# Altium integrated library TI Data Converters Analog to Digital Converter.IntLib: 2197 symbols (part 13 of 168)
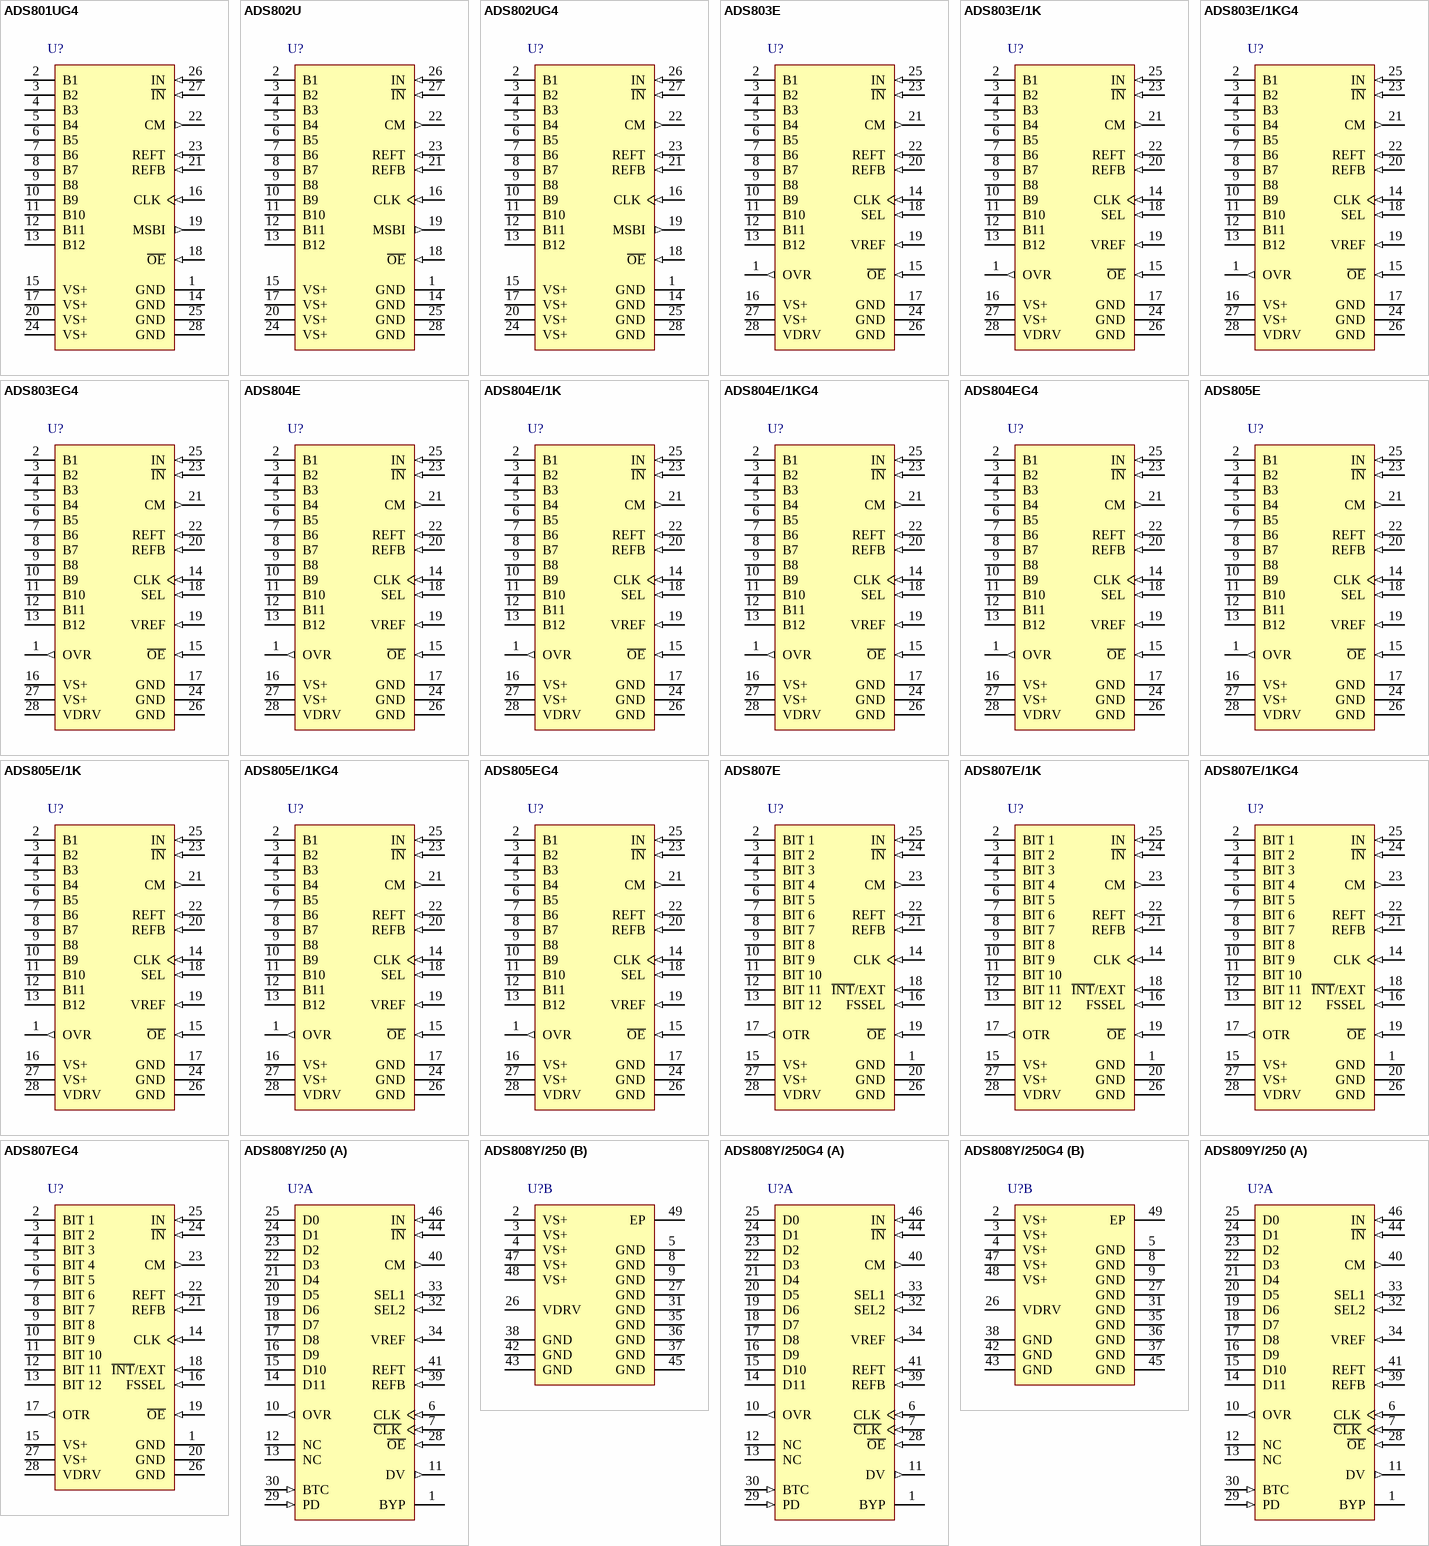
[diagram p138: symbols ADS801UG4 to ADS809Y/250]

## ADS807E
designator U?
12-Bit, 53 MSPS ADC Single-Ended / Differential Input with Range of 2 to 3 Vpp, Internal / External Reference, Out of Range Indicator, -40 to 85 degC, 28-pin SOP (DB28), Green (RoHS & no Sb/Br); Manufacturer: Texas Instruments; PartNumber: ADS807E; # Input Channels: 1; Analog Voltage AV/DD(Max)(V): 5.25; Analog Voltage AV/DD(Min)(V): 4.75; Architecture: Pipeline; Digital Supply(Max)(V): 5; Digital Supply(Min)(V): 3; ENOB(Bits): 0.5; INL(Max)(+/-LSB): 4; Interface: Parallel CMOS; Resolution(Bits): 12; Sample Rate (max)(SPS): 53M; SFDR(dB): 82; SINAD(dB): 69; SubFamily: High Speed ADC (>10MSPS); DatasheetVersion: SBAS072A; PackageVersion: 4040065/E, 12/2001; PackageReference: DB28; PackageDescription: 28-Pin Plastic Small Outline, Body 10.2 X 5.3 mm, Pitch 0.65 mm; Supplier 1: Digi-Key; Supplier Part Number 1: TLC4545IDGKG4-ND; Supplier 2: Mouser; Supplier Part Number 2: 595-TLC4545IDGKG4; Eco-Plan: Green (RoHS & no Sb/Br); SNR(dB): 69; Mounting Technology: Surface Mount; Code_JEDEC: MO-150; ComponentLink1Description: Manufacturer URL; ComponentLink1URL: http://www.ti.com/; ComponentLink2Description: Datasheet; ComponentLink2URL: http://www.ti.com/general/docs/lit/getliterature.tsp?genericPartNumber=ADS807&fileType=pdf; ComponentLink3Description: Package Specification; ComponentLink3URL: http://www.ti.com/lit/ml/msso002e/msso002e.pdf
footprint TI-DB28_N (SOP, 28-Leads, Body 10.2x5.3mm, Pitch 0.65mm, IPC Medium Density)
footprint TI-DB28_L (SOP, 28-Leads, Body 10.2x5.3mm, Pitch 0.65mm, IPC High Density)
footprint TI-DB28_M (SOP, 28-Leads, Body 10.2x5.3mm, Pitch 0.65mm, IPC Low Density)
pins: 1 GND (power) "Ground", 2 BIT 1 (hiz) "Data BIT 1 (MSB)", 3 BIT 2 (hiz) "Data BIT 2", 4 BIT 3 (hiz) "Data BIT 3", 5 BIT 4 (hiz) "Data BIT 4", 6 BIT 5 (hiz) "Data BIT 5", 7 BIT 6 (hiz) "Data BIT 6", 8 BIT 7 (hiz) "Data BIT 7", 9 BIT 8 (hiz) "Data BIT 8", 10 BIT 9 (hiz) "Data BIT 9", 11 BIT 10 (hiz) "Data BIT 10", 12 BIT 11 (hiz) "Data BIT 11", 13 BIT 12 (hiz) "Data BIT 12 (LSB)", 14 CLK (in) "Convert Clock", 15 VS+ (power) "+5V Supply", 16 FSSEL (in) "HI = 3V, LO = 2V", 17 OTR (out) "Out-of-Range Indicator", 18 ~{INT}/EXT (in) "Reference Select: HIGH or Floating = External LOW = Internal 50kohm pull-up.", 19 ~{OE} (in) "Output Enable", 20 GND (power) "Ground", 21 REFB (in) "Bottom Reference/Bypass", 22 REFT (in) "Top Reference/Bypass", 23 CM (out) "Common-Mode Voltage Output", 24 ~{IN} (in) "Complementary Analog Input", 25 IN (in) "Analog Input", 26 GND (power) "Ground", 27 VS+ (power) "+5V Supply", 28 VDRV (power) "Logic Driver Supply Voltage"

## ADS807E/1K
designator U?
12-Bit, 53 MSPS ADC Single-Ended / Differential Input with Range of 2 to 3 Vpp, Internal / External Reference, Out of Range Indicator, -40 to 85 degC, 28-pin SOP (DB28), Green (RoHS & no Sb/Br); Manufacturer: Texas Instruments; PartNumber: ADS807E/1K; # Input Channels: 1; Analog Voltage AV/DD(Max)(V): 5.25; Analog Voltage AV/DD(Min)(V): 4.75; Architecture: Pipeline; Digital Supply(Max)(V): 5; Digital Supply(Min)(V): 3; ENOB(Bits): 0.5; INL(Max)(+/-LSB): 4; Interface: Parallel CMOS; Resolution(Bits): 12; Sample Rate (max)(SPS): 53M; SFDR(dB): 82; SINAD(dB): 69; SubFamily: High Speed ADC (>10MSPS); DatasheetVersion: SBAS072A; PackageVersion: 4040065/E, 12/2001; PackageReference: DB28; PackageDescription: 28-Pin Plastic Small Outline, Body 10.2 X 5.3 mm, Pitch 0.65 mm; Supplier 1: Digi-Key; Supplier Part Number 1: 296-13825-5-ND; Supplier 2: Newark; Supplier Part Number 2: 76C7413; Supplier 3: Mouser; Supplier Part Number 3: 595-TLC4541IDGK; Eco-Plan: Green (RoHS & no Sb/Br); SNR(dB): 69; Mounting Technology: Surface Mount; Code_JEDEC: MO-150; ComponentLink1Description: Manufacturer URL; ComponentLink1URL: http://www.ti.com/; ComponentLink2Description: Datasheet; ComponentLink2URL: http://www.ti.com/general/docs/lit/getliterature.tsp?genericPartNumber=ADS807&fileType=pdf; ComponentLink3Description: Package Specification; ComponentLink3URL: http://www.ti.com/lit/ml/msso002e/msso002e.pdf
footprint TI-DB28_N (SOP, 28-Leads, Body 10.2x5.3mm, Pitch 0.65mm, IPC Medium Density)
footprint TI-DB28_L (SOP, 28-Leads, Body 10.2x5.3mm, Pitch 0.65mm, IPC High Density)
footprint TI-DB28_M (SOP, 28-Leads, Body 10.2x5.3mm, Pitch 0.65mm, IPC Low Density)
pins: 1 GND (power) "Ground", 2 BIT 1 (hiz) "Data BIT 1 (MSB)", 3 BIT 2 (hiz) "Data BIT 2", 4 BIT 3 (hiz) "Data BIT 3", 5 BIT 4 (hiz) "Data BIT 4", 6 BIT 5 (hiz) "Data BIT 5", 7 BIT 6 (hiz) "Data BIT 6", 8 BIT 7 (hiz) "Data BIT 7", 9 BIT 8 (hiz) "Data BIT 8", 10 BIT 9 (hiz) "Data BIT 9", 11 BIT 10 (hiz) "Data BIT 10", 12 BIT 11 (hiz) "Data BIT 11", 13 BIT 12 (hiz) "Data BIT 12 (LSB)", 14 CLK (in) "Convert Clock", 15 VS+ (power) "+5V Supply", 16 FSSEL (in) "HI = 3V, LO = 2V", 17 OTR (out) "Out-of-Range Indicator", 18 ~{INT}/EXT (in) "Reference Select: HIGH or Floating = External LOW = Internal 50kohm pull-up.", 19 ~{OE} (in) "Output Enable", 20 GND (power) "Ground", 21 REFB (in) "Bottom Reference/Bypass", 22 REFT (in) "Top Reference/Bypass", 23 CM (out) "Common-Mode Voltage Output", 24 ~{IN} (in) "Complementary Analog Input", 25 IN (in) "Analog Input", 26 GND (power) "Ground", 27 VS+ (power) "+5V Supply", 28 VDRV (power) "Logic Driver Supply Voltage"

## ADS807E/1KG4
designator U?
12-Bit, 53 MSPS ADC Single-Ended / Differential Input with Range of 2 to 3 Vpp, Internal / External Reference, Out of Range Indicator, -40 to 85 degC, 28-pin SOP (DB28), Green (RoHS & no Sb/Br); Manufacturer: Texas Instruments; PartNumber: ADS807E/1KG4; # Input Channels: 1; Analog Voltage AV/DD(Max)(V): 5.25; Analog Voltage AV/DD(Min)(V): 4.75; Architecture: Pipeline; Digital Supply(Max)(V): 5; Digital Supply(Min)(V): 3; ENOB(Bits): 0.5; INL(Max)(+/-LSB): 4; Interface: Parallel CMOS; Resolution(Bits): 12; Sample Rate (max)(SPS): 53M; SFDR(dB): 82; SINAD(dB): 69; SubFamily: High Speed ADC (>10MSPS); DatasheetVersion: SBAS072A; PackageVersion: 4040065/E, 12/2001; PackageReference: DB28; PackageDescription: 28-Pin Plastic Small Outline, Body 10.2 X 5.3 mm, Pitch 0.65 mm; Supplier 1: Digi-Key; Supplier Part Number 1: TLC4541IDGKG4-ND; Supplier 2: Mouser; Supplier Part Number 2: 595-TLC4541IDGKG4; Eco-Plan: Green (RoHS & no Sb/Br); SNR(dB): 69; Mounting Technology: Surface Mount; Code_JEDEC: MO-150; ComponentLink1Description: Manufacturer URL; ComponentLink1URL: http://www.ti.com/; ComponentLink2Description: Datasheet; ComponentLink2URL: http://www.ti.com/general/docs/lit/getliterature.tsp?genericPartNumber=ADS807&fileType=pdf; ComponentLink3Description: Package Specification; ComponentLink3URL: http://www.ti.com/lit/ml/msso002e/msso002e.pdf
footprint TI-DB28_N (SOP, 28-Leads, Body 10.2x5.3mm, Pitch 0.65mm, IPC Medium Density)
footprint TI-DB28_L (SOP, 28-Leads, Body 10.2x5.3mm, Pitch 0.65mm, IPC High Density)
footprint TI-DB28_M (SOP, 28-Leads, Body 10.2x5.3mm, Pitch 0.65mm, IPC Low Density)
pins: 1 GND (power) "Ground", 2 BIT 1 (hiz) "Data BIT 1 (MSB)", 3 BIT 2 (hiz) "Data BIT 2", 4 BIT 3 (hiz) "Data BIT 3", 5 BIT 4 (hiz) "Data BIT 4", 6 BIT 5 (hiz) "Data BIT 5", 7 BIT 6 (hiz) "Data BIT 6", 8 BIT 7 (hiz) "Data BIT 7", 9 BIT 8 (hiz) "Data BIT 8", 10 BIT 9 (hiz) "Data BIT 9", 11 BIT 10 (hiz) "Data BIT 10", 12 BIT 11 (hiz) "Data BIT 11", 13 BIT 12 (hiz) "Data BIT 12 (LSB)", 14 CLK (in) "Convert Clock", 15 VS+ (power) "+5V Supply", 16 FSSEL (in) "HI = 3V, LO = 2V", 17 OTR (out) "Out-of-Range Indicator", 18 ~{INT}/EXT (in) "Reference Select: HIGH or Floating = External LOW = Internal 50kohm pull-up.", 19 ~{OE} (in) "Output Enable", 20 GND (power) "Ground", 21 REFB (in) "Bottom Reference/Bypass", 22 REFT (in) "Top Reference/Bypass", 23 CM (out) "Common-Mode Voltage Output", 24 ~{IN} (in) "Complementary Analog Input", 25 IN (in) "Analog Input", 26 GND (power) "Ground", 27 VS+ (power) "+5V Supply", 28 VDRV (power) "Logic Driver Supply Voltage"

## ADS807EG4
designator U?
12-Bit, 53 MSPS ADC Single-Ended / Differential Input with Range of 2 to 3 Vpp, Internal / External Reference, Out of Range Indicator, -40 to 85 degC, 28-pin SOP (DB28), Green (RoHS & no Sb/Br); Manufacturer: Texas Instruments; PartNumber: ADS807EG4; # Input Channels: 1; Analog Voltage AV/DD(Max)(V): 5.25; Analog Voltage AV/DD(Min)(V): 4.75; Architecture: Pipeline; Digital Supply(Max)(V): 5; Digital Supply(Min)(V): 3; ENOB(Bits): 0.5; INL(Max)(+/-LSB): 4; Interface: Parallel CMOS; Resolution(Bits): 12; Sample Rate (max)(SPS): 53M; SFDR(dB): 82; SINAD(dB): 69; SubFamily: High Speed ADC (>10MSPS); DatasheetVersion: SBAS072A; PackageVersion: 4040065/E, 12/2001; PackageReference: DB28; PackageDescription: 28-Pin Plastic Small Outline, Body 10.2 X 5.3 mm, Pitch 0.65 mm; Supplier 1: Digi-Key; Supplier Part Number 1: TLC4541IDGKR-ND; Supplier 2: Mouser; Supplier Part Number 2: 595-TLC4541IDGKR; Eco-Plan: Green (RoHS & no Sb/Br); SNR(dB): 69; Mounting Technology: Surface Mount; Code_JEDEC: MO-150; ComponentLink1Description: Manufacturer URL; ComponentLink1URL: http://www.ti.com/; ComponentLink2Description: Datasheet; ComponentLink2URL: http://www.ti.com/general/docs/lit/getliterature.tsp?genericPartNumber=ADS807&fileType=pdf; ComponentLink3Description: Package Specification; ComponentLink3URL: http://www.ti.com/lit/ml/msso002e/msso002e.pdf
footprint TI-DB28_N (SOP, 28-Leads, Body 10.2x5.3mm, Pitch 0.65mm, IPC Medium Density)
footprint TI-DB28_L (SOP, 28-Leads, Body 10.2x5.3mm, Pitch 0.65mm, IPC High Density)
footprint TI-DB28_M (SOP, 28-Leads, Body 10.2x5.3mm, Pitch 0.65mm, IPC Low Density)
pins: 1 GND (power) "Ground", 2 BIT 1 (hiz) "Data BIT 1 (MSB)", 3 BIT 2 (hiz) "Data BIT 2", 4 BIT 3 (hiz) "Data BIT 3", 5 BIT 4 (hiz) "Data BIT 4", 6 BIT 5 (hiz) "Data BIT 5", 7 BIT 6 (hiz) "Data BIT 6", 8 BIT 7 (hiz) "Data BIT 7", 9 BIT 8 (hiz) "Data BIT 8", 10 BIT 9 (hiz) "Data BIT 9", 11 BIT 10 (hiz) "Data BIT 10", 12 BIT 11 (hiz) "Data BIT 11", 13 BIT 12 (hiz) "Data BIT 12 (LSB)", 14 CLK (in) "Convert Clock", 15 VS+ (power) "+5V Supply", 16 FSSEL (in) "HI = 3V, LO = 2V", 17 OTR (out) "Out-of-Range Indicator", 18 ~{INT}/EXT (in) "Reference Select: HIGH or Floating = External LOW = Internal 50kohm pull-up.", 19 ~{OE} (in) "Output Enable", 20 GND (power) "Ground", 21 REFB (in) "Bottom Reference/Bypass", 22 REFT (in) "Top Reference/Bypass", 23 CM (out) "Common-Mode Voltage Output", 24 ~{IN} (in) "Complementary Analog Input", 25 IN (in) "Analog Input", 26 GND (power) "Ground", 27 VS+ (power) "+5V Supply", 28 VDRV (power) "Logic Driver Supply Voltage"

## ADS808Y/250
designator U?
12-Bit, 70 MSPS ADC Single-Ended / Differential, Internal / External Reference, Flexible Clocking, Selectable Fullscale Range and Power Down, -40 to 85 degC, 48-pin QFP (PHP48), Green (RoHS & no Sb/Br); Manufacturer: Texas Instruments; PartNumber: ADS808Y/250; # Input Channels: 1; Analog Voltage AV/DD(Max)(V): 5.25; Analog Voltage AV/DD(Min)(V): 4.75; Architecture: Pipeline; Digital Supply(Max)(V): 5; Digital Supply(Min)(V): 3; ENOB(Bits): 0.7; INL(Max)(+/-LSB): 7; Interface: Parallel CMOS; Resolution(Bits): 12; Sample Rate (max)(SPS): 70M; SFDR(dB): 68; SINAD(dB): 63; SNR(dB): 64; SubFamily: High Speed ADC (>10MSPS); DatasheetVersion: SBAS179C; PackageVersion: 4146927/B, 08/2003; PackageReference: PHP48-4790X4790TP; PackageDescription: 48-Pin PowerPAD(TM) Plastic Quad Flatpack, Body 7 x 7 mm, Pitch 0.5 mm; Supplier 1: Digi-Key; Supplier Part Number 1: TLC4541IDGKRG4-ND; Supplier 2: Mouser; Supplier Part Number 2: 595-TLC4541IDGKRG4; Eco-Plan: Green (RoHS & no Sb/Br); Mounting Technology: Surface Mount; Code_JEDEC: MS-026; ComponentLink1Description: Manufacturer URL; ComponentLink1URL: http://www.ti.com/; ComponentLink2Description: Datasheet; ComponentLink2URL: http://www.ti.com/general/docs/lit/getliterature.tsp?genericPartNumber=ADS808&fileType=pdf; ComponentLink3Description: Package Specification; ComponentLink3URL: http://www.ti.com/litv/pdf/mpqf051a
footprint TI-PHP48-4790X4790TP_N (QFP, 48-Leads, Body 7x7mm, Pitch 0.5mm, Thermal Pad 4.9 x 4.9 mm, IPC Medium Density)
footprint TI-PHP48-4790X4790TP_L (QFP, 48-Leads, Body 7x7mm, Pitch 0.5mm, Thermal Pad 4.9 x 4.9 mm, IPC High Density)
footprint TI-PHP48-4790X4790TP_M (QFP, 48-Leads, Body 7x7mm, Pitch 0.5mm, Thermal Pad 4.9 x 4.9 mm, IPC Low Density)
part A pins: 1 BYP "Bypass Point", 6 CLK (in) "Clock Input", 7 ~{CLK} (in) "Complementary Clock Input", 10 OVR (out) "Over-Range Indicator", 11 DV (out) "Data Valid Pulse: HI = Data Valid", 12 NC "No Connection", 13 NC "No Connection", 14 D11 (hiz) "Data Bit 11, (MSB)", 15 D10 (hiz) "Data Bit 10", 16 D9 (hiz) "Data Bit 9", 17 D8 (hiz) "Data Bit 8", 18 D7 (hiz) "Data Bit 7", 19 D6 (hiz) "Data Bit 6", 20 D5 (hiz) "Data Bit 5", 21 D4 (hiz) "Data Bit 4", 22 D3 (hiz) "Data Bit 3", 23 D2 (hiz) "Data Bit 2", 24 D1 (hiz) "Data Bit 1", 25 D0 (hiz) "Data Bit 0, (LSB)", 28 ~{OE} (in) "Output Enable: HI = High Impedance; LO or Floating: Normal Operation", 29 PD (in) "Power Down: HI = Power Down; LO = Normal", 30 BTC (in) "HI = Binary Two’s Complement; LO = Straight Binary", 32 SEL2 (in) "Reference Select 2: See Table on Page 5", 33 SEL1 (in) "Reference Select 1: See Table on Page 5", 34 VREF (in) "Internal Reference Voltage", 39 REFB (in) "Bottom Reference Voltage Bypass", 40 CM (out) "Common-Mode Voltage (midscale)", 41 REFT (in) "Top Reference Voltage Bypass", 44 ~{IN} (in) "Complementary Analog Input", 46 IN (in) "Analog Input"
part B pins: 2 VS+ (power) "Supply Voltage", 3 VS+ (power) "Supply Voltage", 4 VS+ (power) "Supply Voltage", 5 GND (power) "Ground", 8 GND (power) "Ground", 9 GND (power) "Ground", 26 VDRV (power) "Output Bit Driver Voltage Supply", 27 GND (power) "Ground", 31 GND (power) "Ground", 35 GND (power) "Ground", 36 GND (power) "Ground", 37 GND (power) "Ground", 38 GND (power) "Ground", 42 GND (power) "Ground", 43 GND (power) "Ground", 45 GND (power) "Ground", 47 VS+ (power) "Supply Voltage", 48 VS+ (power) "Supply Voltage", 49 EP

## ADS808Y/250G4
designator U?
12-Bit, 70 MSPS ADC Single-Ended / Differential, Internal / External Reference, Flexible Clocking, Selectable Fullscale Range and Power Down, -40 to 85 degC, 48-pin QFP (PHP48), Green (RoHS & no Sb/Br); Manufacturer: Texas Instruments; PartNumber: ADS808Y/250G4; # Input Channels: 1; Analog Voltage AV/DD(Max)(V): 5.25; Analog Voltage AV/DD(Min)(V): 4.75; Architecture: Pipeline; Digital Supply(Max)(V): 5; Digital Supply(Min)(V): 3; ENOB(Bits): 0.7; INL(Max)(+/-LSB): 7; Interface: Parallel CMOS; Resolution(Bits): 12; Sample Rate (max)(SPS): 70M; SFDR(dB): 68; SINAD(dB): 63; SNR(dB): 64; SubFamily: High Speed ADC (>10MSPS); DatasheetVersion: SBAS179C; PackageVersion: 4146927/B, 08/2003; PackageReference: PHP48-4790X4790TP; PackageDescription: 48-Pin PowerPAD(TM) Plastic Quad Flatpack, Body 7 x 7 mm, Pitch 0.5 mm; Supplier 1: Digi-Key; Supplier Part Number 1: 296-13506-5-ND; Supplier 2: Mouser; Supplier Part Number 2: 595-TLC3545IDGK; Eco-Plan: Green (RoHS & no Sb/Br); Mounting Technology: Surface Mount; Code_JEDEC: MS-026; ComponentLink1Description: Manufacturer URL; ComponentLink1URL: http://www.ti.com/; ComponentLink2Description: Datasheet; ComponentLink2URL: http://www.ti.com/general/docs/lit/getliterature.tsp?genericPartNumber=ADS808&fileType=pdf; ComponentLink3Description: Package Specification; ComponentLink3URL: http://www.ti.com/litv/pdf/mpqf051a
footprint TI-PHP48-4790X4790TP_N (QFP, 48-Leads, Body 7x7mm, Pitch 0.5mm, Thermal Pad 4.9 x 4.9 mm, IPC Medium Density)
footprint TI-PHP48-4790X4790TP_L (QFP, 48-Leads, Body 7x7mm, Pitch 0.5mm, Thermal Pad 4.9 x 4.9 mm, IPC High Density)
footprint TI-PHP48-4790X4790TP_M (QFP, 48-Leads, Body 7x7mm, Pitch 0.5mm, Thermal Pad 4.9 x 4.9 mm, IPC Low Density)
part A pins: 1 BYP "Bypass Point", 6 CLK (in) "Clock Input", 7 ~{CLK} (in) "Complementary Clock Input", 10 OVR (out) "Over-Range Indicator", 11 DV (out) "Data Valid Pulse: HI = Data Valid", 12 NC "No Connection", 13 NC "No Connection", 14 D11 (hiz) "Data Bit 11, (MSB)", 15 D10 (hiz) "Data Bit 10", 16 D9 (hiz) "Data Bit 9", 17 D8 (hiz) "Data Bit 8", 18 D7 (hiz) "Data Bit 7", 19 D6 (hiz) "Data Bit 6", 20 D5 (hiz) "Data Bit 5", 21 D4 (hiz) "Data Bit 4", 22 D3 (hiz) "Data Bit 3", 23 D2 (hiz) "Data Bit 2", 24 D1 (hiz) "Data Bit 1", 25 D0 (hiz) "Data Bit 0, (LSB)", 28 ~{OE} (in) "Output Enable: HI = High Impedance; LO or Floating: Normal Operation", 29 PD (in) "Power Down: HI = Power Down; LO = Normal", 30 BTC (in) "HI = Binary Two’s Complement; LO = Straight Binary", 32 SEL2 (in) "Reference Select 2: See Table on Page 5", 33 SEL1 (in) "Reference Select 1: See Table on Page 5", 34 VREF (in) "Internal Reference Voltage", 39 REFB (in) "Bottom Reference Voltage Bypass", 40 CM (out) "Common-Mode Voltage (midscale)", 41 REFT (in) "Top Reference Voltage Bypass", 44 ~{IN} (in) "Complementary Analog Input", 46 IN (in) "Analog Input"
part B pins: 2 VS+ (power) "Supply Voltage", 3 VS+ (power) "Supply Voltage", 4 VS+ (power) "Supply Voltage", 5 GND (power) "Ground", 8 GND (power) "Ground", 9 GND (power) "Ground", 26 VDRV (power) "Output Bit Driver Voltage Supply", 27 GND (power) "Ground", 31 GND (power) "Ground", 35 GND (power) "Ground", 36 GND (power) "Ground", 37 GND (power) "Ground", 38 GND (power) "Ground", 42 GND (power) "Ground", 43 GND (power) "Ground", 45 GND (power) "Ground", 47 VS+ (power) "Supply Voltage", 48 VS+ (power) "Supply Voltage", 49 EP

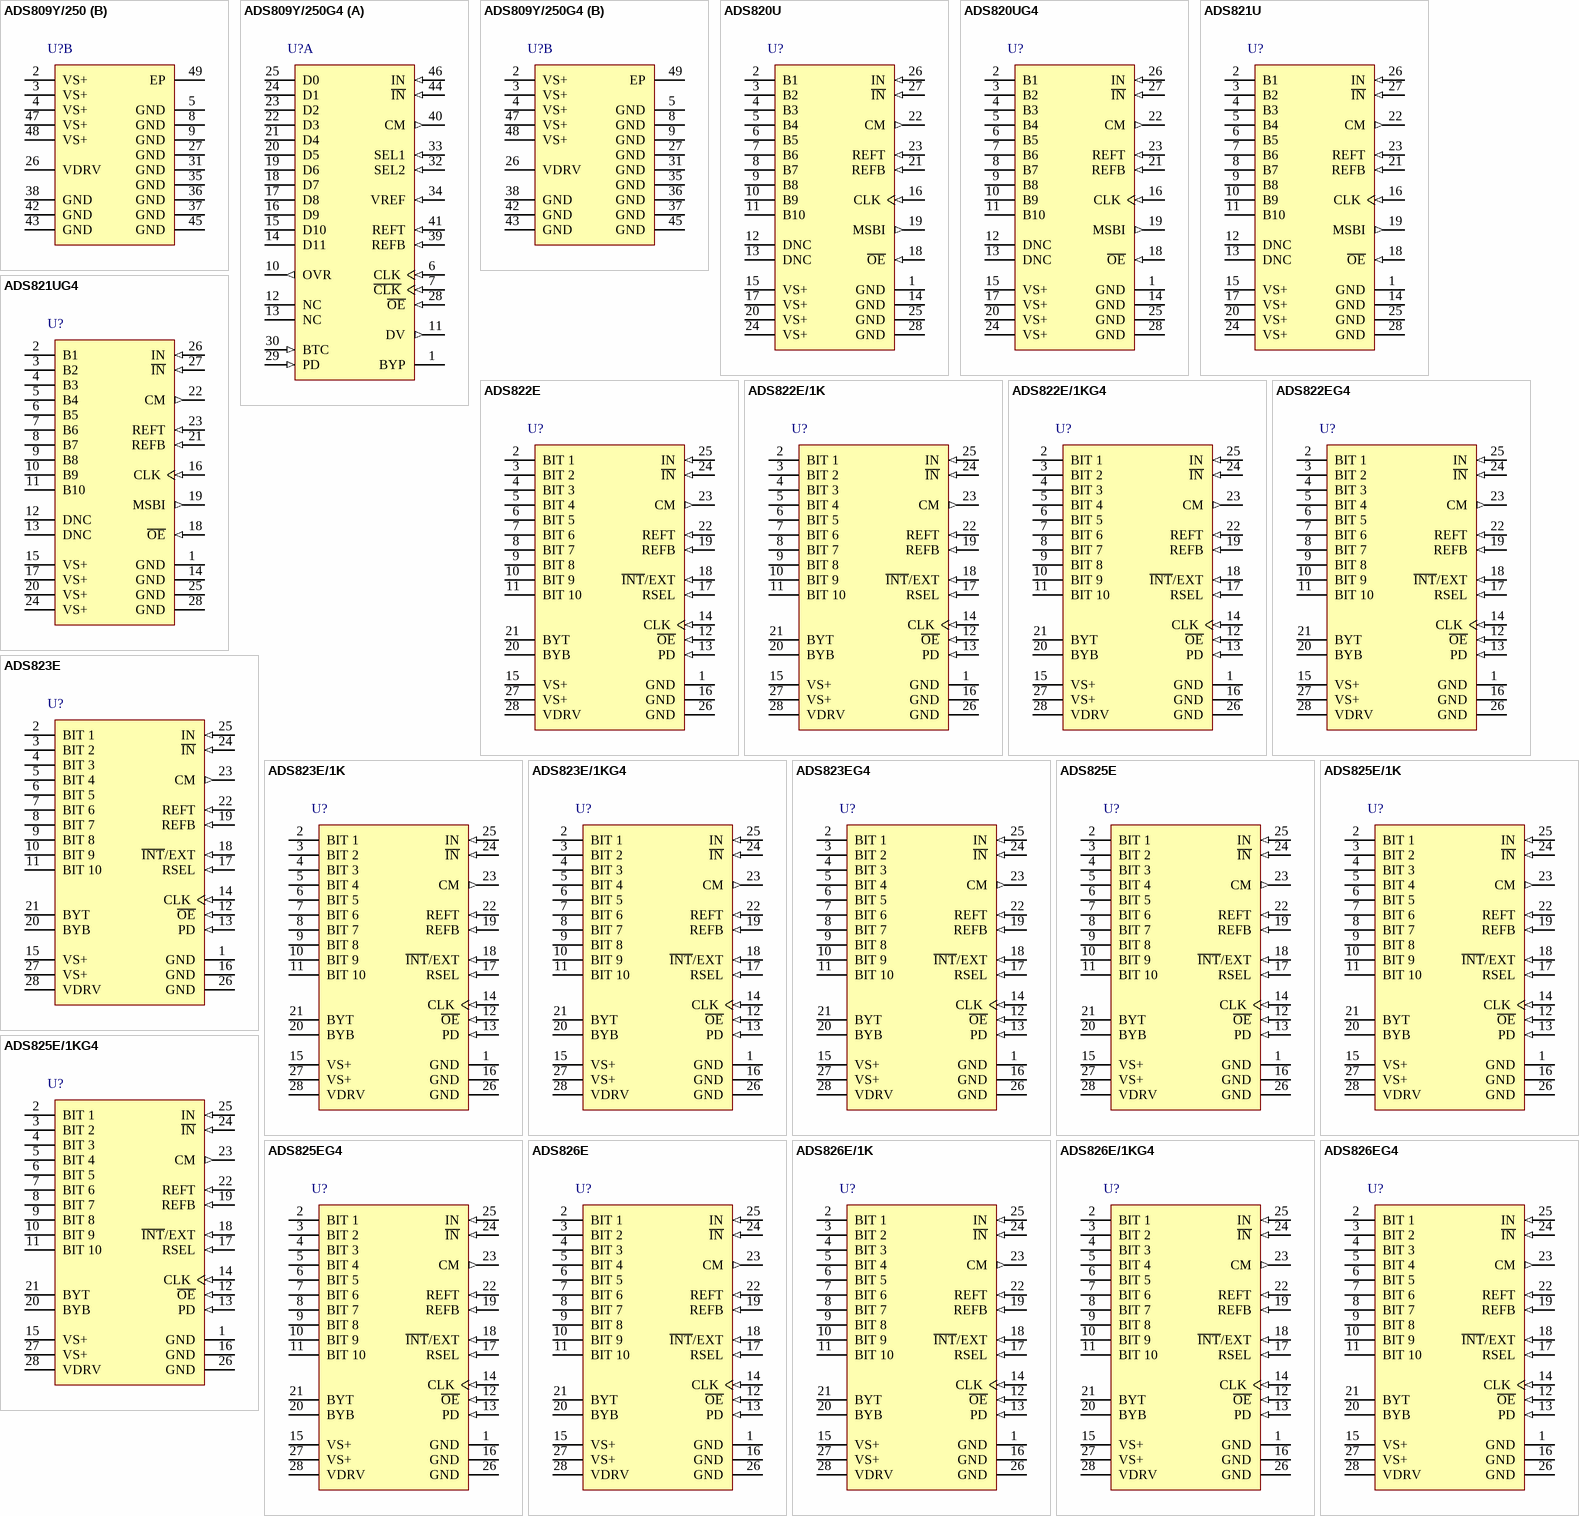
[diagram p9: symbols ADS809Y/250 to ADS826EG4]

## ADS809Y/250
designator U?
12-Bit, 80 MSPS ADC Single-Ended / Differential, Internal / External Reference, Flexible Clocking, Selectable Fullscale Range and Pwrdown, -40 to 85 degC, 48-pin QFP (PHP48), Green (RoHS & no Sb/Br); Manufacturer: Texas Instruments; PartNumber: ADS809Y/250; # Input Channels: 1; Analog Voltage AV/DD(Max)(V): 5.25; Analog Voltage AV/DD(Min)(V): 4.75; Architecture: Pipeline; Digital Supply(Max)(V): 5; Digital Supply(Min)(V): 3; INL(Max)(+/-LSB): 7; Interface: Parallel CMOS; Resolution(Bits): 12; Sample Rate (max)(SPS): 80M; SFDR(dB): 67; SINAD(dB): 61; SNR(dB): 63; SubFamily: High Speed ADC (>10MSPS); DatasheetVersion: SBAS170C; PackageVersion: 4146927/B, 08/2003; PackageReference: PHP48-4790X4790TP; PackageDescription: 48-Pin PowerPAD(TM) Plastic Quad Flatpack, Body 7 x 7 mm, Pitch 0.5 mm; Supplier 1: Digi-Key; Supplier Part Number 1: TLC3545IDGKG4-ND; Supplier 2: Mouser; Supplier Part Number 2: 595-TLC3545IDGKG4; Eco-Plan: Green (RoHS & no Sb/Br); Mounting Technology: Surface Mount; Code_JEDEC: MS-026; ComponentLink1Description: Manufacturer URL; ComponentLink1URL: http://www.ti.com/; ComponentLink2Description: Datasheet; ComponentLink2URL: http://www.ti.com/general/docs/lit/getliterature.tsp?genericPartNumber=ADS809&fileType=pdf; ComponentLink3Description: Package Specification; ComponentLink3URL: http://www.ti.com/litv/pdf/mpqf051a
footprint TI-PHP48-4790X4790TP_N (QFP, 48-Leads, Body 7x7mm, Pitch 0.5mm, Thermal Pad 4.9 x 4.9 mm, IPC Medium Density)
footprint TI-PHP48-4790X4790TP_L (QFP, 48-Leads, Body 7x7mm, Pitch 0.5mm, Thermal Pad 4.9 x 4.9 mm, IPC High Density)
footprint TI-PHP48-4790X4790TP_M (QFP, 48-Leads, Body 7x7mm, Pitch 0.5mm, Thermal Pad 4.9 x 4.9 mm, IPC Low Density)
part A pins: 1 BYP "Bypass Point", 6 CLK (in) "Clock Input", 7 ~{CLK} (in) "Complementary Clock Input", 10 OVR (out) "Over-Range Indicator", 11 DV (out) "Data Valid Pulse: HI = Data Valid", 12 NC "No Connection", 13 NC "No Connection", 14 D11 (hiz) "Data Bit 11, (MSB)", 15 D10 (hiz) "Data Bit 10", 16 D9 (hiz) "Data Bit 9", 17 D8 (hiz) "Data Bit 8", 18 D7 (hiz) "Data Bit 7", 19 D6 (hiz) "Data Bit 6", 20 D5 (hiz) "Data Bit 5", 21 D4 (hiz) "Data Bit 4", 22 D3 (hiz) "Data Bit 3", 23 D2 (hiz) "Data Bit 2", 24 D1 (hiz) "Data Bit 1", 25 D0 (hiz) "Data Bit 0, (LSB)", 28 ~{OE} (in) "Output Enable: HI = High Impedance; LO or Floating: Normal Operation", 29 PD (in) "Power Down: HI = Power Down; LO = Normal", 30 BTC (in) "HI = Binary Two’s Complement; LO = Straight Binary", 32 SEL2 (in) "Reference Select 2: See Table on Page 5", 33 SEL1 (in) "Reference Select 1: See Table on Page 5", 34 VREF (in) "Internal Reference Voltage", 39 REFB (in) "Bottom Reference Voltage Bypass", 40 CM (out) "Common-Mode Voltage (midscale)", 41 REFT (in) "Top Reference Voltage Bypass", 44 ~{IN} (in) "Complementary Analog Input", 46 IN (in) "Analog Input"
part B pins: 2 VS+ (power) "Supply Voltage", 3 VS+ (power) "Supply Voltage", 4 VS+ (power) "Supply Voltage", 5 GND (power) "Ground", 8 GND (power) "Ground", 9 GND (power) "Ground", 26 VDRV (power) "Output Bit Driver Voltage Supply", 27 GND (power) "Ground", 31 GND (power) "Ground", 35 GND (power) "Ground", 36 GND (power) "Ground", 37 GND (power) "Ground", 38 GND (power) "Ground", 42 GND (power) "Ground", 43 GND (power) "Ground", 45 GND (power) "Ground", 47 VS+ (power) "Supply Voltage", 48 VS+ (power) "Supply Voltage", 49 EP

## ADS809Y/250G4
designator U?
12-Bit, 80 MSPS ADC Single-Ended / Differential, Internal / External Reference, Flexible Clocking, Selectable Fullscale Range and Pwrdown, -40 to 85 degC, 48-pin QFP (PHP48), Green (RoHS & no Sb/Br); Manufacturer: Texas Instruments; PartNumber: ADS809Y/250G4; # Input Channels: 1; Analog Voltage AV/DD(Max)(V): 5.25; Analog Voltage AV/DD(Min)(V): 4.75; Architecture: Pipeline; Digital Supply(Max)(V): 5; Digital Supply(Min)(V): 3; INL(Max)(+/-LSB): 7; Interface: Parallel CMOS; Resolution(Bits): 12; Sample Rate (max)(SPS): 80M; SFDR(dB): 67; SINAD(dB): 61; SNR(dB): 63; SubFamily: High Speed ADC (>10MSPS); DatasheetVersion: SBAS170C; PackageVersion: 4146927/B, 08/2003; PackageReference: PHP48-4790X4790TP; PackageDescription: 48-Pin PowerPAD(TM) Plastic Quad Flatpack, Body 7 x 7 mm, Pitch 0.5 mm; Supplier 1: Digi-Key; Supplier Part Number 1: ADS7823E/250TR-ND; Supplier 2: Digi-Key; Supplier Part Number 2: ADS7823E/250CT-ND; Supplier 3: Digi-Key; Supplier Part Number 3: ADS7823E/250DKR-ND; Supplier 4: Farnell; Supplier Part Number 4: 1295959; Supplier 5: Newark; Supplier Part Number 5: 74C7146; Supplier 6: Mouser; Supplier Part Number 6: 595-ADS7823E/250; Eco-Plan: Green (RoHS & no Sb/Br); Mounting Technology: Surface Mount; Code_JEDEC: MS-026; ComponentLink1Description: Manufacturer URL; ComponentLink1URL: http://www.ti.com/; ComponentLink2Description: Datasheet; ComponentLink2URL: http://www.ti.com/general/docs/lit/getliterature.tsp?genericPartNumber=ADS809&fileType=pdf; ComponentLink3Description: Package Specification; ComponentLink3URL: http://www.ti.com/litv/pdf/mpqf051a
footprint TI-PHP48-4790X4790TP_N (QFP, 48-Leads, Body 7x7mm, Pitch 0.5mm, Thermal Pad 4.9 x 4.9 mm, IPC Medium Density)
footprint TI-PHP48-4790X4790TP_L (QFP, 48-Leads, Body 7x7mm, Pitch 0.5mm, Thermal Pad 4.9 x 4.9 mm, IPC High Density)
footprint TI-PHP48-4790X4790TP_M (QFP, 48-Leads, Body 7x7mm, Pitch 0.5mm, Thermal Pad 4.9 x 4.9 mm, IPC Low Density)
part A pins: 1 BYP "Bypass Point", 6 CLK (in) "Clock Input", 7 ~{CLK} (in) "Complementary Clock Input", 10 OVR (out) "Over-Range Indicator", 11 DV (out) "Data Valid Pulse: HI = Data Valid", 12 NC "No Connection", 13 NC "No Connection", 14 D11 (hiz) "Data Bit 11, (MSB)", 15 D10 (hiz) "Data Bit 10", 16 D9 (hiz) "Data Bit 9", 17 D8 (hiz) "Data Bit 8", 18 D7 (hiz) "Data Bit 7", 19 D6 (hiz) "Data Bit 6", 20 D5 (hiz) "Data Bit 5", 21 D4 (hiz) "Data Bit 4", 22 D3 (hiz) "Data Bit 3", 23 D2 (hiz) "Data Bit 2", 24 D1 (hiz) "Data Bit 1", 25 D0 (hiz) "Data Bit 0, (LSB)", 28 ~{OE} (in) "Output Enable: HI = High Impedance; LO or Floating: Normal Operation", 29 PD (in) "Power Down: HI = Power Down; LO = Normal", 30 BTC (in) "HI = Binary Two’s Complement; LO = Straight Binary", 32 SEL2 (in) "Reference Select 2: See Table on Page 5", 33 SEL1 (in) "Reference Select 1: See Table on Page 5", 34 VREF (in) "Internal Reference Voltage", 39 REFB (in) "Bottom Reference Voltage Bypass", 40 CM (out) "Common-Mode Voltage (midscale)", 41 REFT (in) "Top Reference Voltage Bypass", 44 ~{IN} (in) "Complementary Analog Input", 46 IN (in) "Analog Input"
part B pins: 2 VS+ (power) "Supply Voltage", 3 VS+ (power) "Supply Voltage", 4 VS+ (power) "Supply Voltage", 5 GND (power) "Ground", 8 GND (power) "Ground", 9 GND (power) "Ground", 26 VDRV (power) "Output Bit Driver Voltage Supply", 27 GND (power) "Ground", 31 GND (power) "Ground", 35 GND (power) "Ground", 36 GND (power) "Ground", 37 GND (power) "Ground", 38 GND (power) "Ground", 42 GND (power) "Ground", 43 GND (power) "Ground", 45 GND (power) "Ground", 47 VS+ (power) "Supply Voltage", 48 VS+ (power) "Supply Voltage", 49 EP

## ADS820U
designator U?
10-Bit, 20 MSPS ADC Single-Ended / Differential Inputs with Int References and 9.5-Bit ENOB, -40 to 85 degC, 28-pin SOIC (DW28), Green (RoHS & no Sb/Br); Manufacturer: Texas Instruments; PartNumber: ADS820U; # Input Channels: 1; Analog Voltage AV/DD(Max)(V): 5.25; Analog Voltage AV/DD(Min)(V): 4.75; Architecture: Pipeline; ENOB(Bits): 9.5; INL(Max)(+/-LSB): 2; Interface: Parallel CMOS; Resolution(Bits): 10; Sample Rate (max)(SPS): 20M; SFDR(dB): 77; SINAD(dB): 60.5; SubFamily: High Speed ADC (>10MSPS); DatasheetVersion: SBAS037B; PackageVersion: 4040000-6/G, 01/2011; PackageReference: DW28; PackageDescription: 28-Pin Plastic Small Outline, Body 17.90 x 7.50 mm, Pitch 1.27 mm; Supplier 1: Digi-Key; Supplier Part Number 1: ADS7823E/250G4-ND; Supplier 2: Farnell; Supplier Part Number 2: 1207896; Supplier 3: Newark; Supplier Part Number 3: 96K6233; Supplier 4: Newark; Supplier Part Number 4: 73K7083; Supplier 5: Mouser; Supplier Part Number 5: 595-ADS7823E/250G4; Digital Supply(Max)(V): 5.25; Digital Supply(Min)(V): 4.75; Eco-Plan: Green (RoHS & no Sb/Br); SNR(dB): 60.5; Mounting Technology: Surface Mount; Code_JEDEC: MS-013; ComponentLink1Description: Manufacturer URL; ComponentLink1URL: http://www.ti.com/; ComponentLink2Description: Datasheet; ComponentLink2URL: http://www.ti.com/general/docs/lit/getliterature.tsp?genericPartNumber=ADS820&fileType=pdf; ComponentLink3Description: Package Specification; ComponentLink3URL: http://www.ti.com/lit/ml/mpds175a/mpds175a.pdf
footprint TI-DW28_N (SOIC, 28-Leads, Body 17.9x7.5mm, Pitch 1.27mm, IPC Medium Density)
footprint TI-DW28_L (SOIC, 28-Leads, Body 17.9x7.5mm, Pitch 1.27mm, IPC High Density)
footprint TI-DW28_M (SOIC, 28-Leads, Body 17.9x7.5mm, Pitch 1.27mm, IPC Low Density)
pins: 1 GND (power) "Ground", 2 B1 (hiz) "Bit 1, Most Significant Bit (MSB)", 3 B2 (hiz) "Bit 2", 4 B3 (hiz) "Bit 3", 5 B4 (hiz) "Bit 4", 6 B5 (hiz) "Bit 5", 7 B6 (hiz) "Bit 6", 8 B7 (hiz) "Bit 7", 9 B8 (hiz) "Bit 8", 10 B9 (hiz) "Bit 9", 11 B10 (hiz) "Bit 10, Least Significant Bit (LSB)", 12 DNC "Do Not Connect", 13 DNC "Do Not Connect", 14 GND (power) "Ground", 15 VS+ (power) "+5V Power Supply", 16 CLK (in) "Convert Clock Input, 50% Duty Cycle", 17 VS+ (power) "+5V Power Supply", 18 ~{OE} (in) "HIGH: High-Impedance State. LOW or Floating:Normal Operation. Internal pull-down resistor.", 19 MSBI (out) "Most Significant Bit Inversion, HIGH: MSB inverted for complementary output. LOW or Floating: Straight output. Internal pull-down resistor.", 20 VS+ (power) "+5V Power Supply", 21 REFB (in) "Bottom Reference Bypass. For external bypassing of internal +1.25V reference.", 22 CM (out) "Common-Mode Voltage. It is derived by (REFT + REFB)/2.", 23 REFT (in) "Top Reference Bypass. For external bypassing of internal +3.25V reference.", 24 VS+ (power) "+5V Power Supply", 25 GND (power) "Ground", 26 IN (in) "Input", 27 ~{IN} (in) "Complementary Input", 28 GND (power) "Ground"

## ADS820UG4
designator U?
10-Bit, 20 MSPS ADC Single-Ended / Differential Inputs with Int References and 9.5-Bit ENOB, -40 to 85 degC, 28-pin SOIC (DW28), Green (RoHS & no Sb/Br); Manufacturer: Texas Instruments; PartNumber: ADS820UG4; # Input Channels: 1; Analog Voltage AV/DD(Max)(V): 5.25; Analog Voltage AV/DD(Min)(V): 4.75; Architecture: Pipeline; ENOB(Bits): 9.5; INL(Max)(+/-LSB): 2; Interface: Parallel CMOS; Resolution(Bits): 10; Sample Rate (max)(SPS): 20M; SFDR(dB): 77; SINAD(dB): 60.5; SubFamily: High Speed ADC (>10MSPS); DatasheetVersion: SBAS037B; PackageVersion: 4040000-6/G, 01/2011; PackageReference: DW28; PackageDescription: 28-Pin Plastic Small Outline, Body 17.90 x 7.50 mm, Pitch 1.27 mm; Supplier 1: Digi-Key; Supplier Part Number 1: ADS7823E/2K5-ND; Supplier 2: Newark; Supplier Part Number 2: 74C7145; Supplier 3: Mouser; Supplier Part Number 3: 595-ADS7823E/2K5; Digital Supply(Max)(V): 5.25; Digital Supply(Min)(V): 4.75; Eco-Plan: Green (RoHS & no Sb/Br); SNR(dB): 60.5; Mounting Technology: Surface Mount; Code_JEDEC: MS-013; ComponentLink1Description: Manufacturer URL; ComponentLink1URL: http://www.ti.com/; ComponentLink2Description: Datasheet; ComponentLink2URL: http://www.ti.com/general/docs/lit/getliterature.tsp?genericPartNumber=ADS820&fileType=pdf; ComponentLink3Description: Package Specification; ComponentLink3URL: http://www.ti.com/lit/ml/mpds175a/mpds175a.pdf
footprint TI-DW28_N (SOIC, 28-Leads, Body 17.9x7.5mm, Pitch 1.27mm, IPC Medium Density)
footprint TI-DW28_L (SOIC, 28-Leads, Body 17.9x7.5mm, Pitch 1.27mm, IPC High Density)
footprint TI-DW28_M (SOIC, 28-Leads, Body 17.9x7.5mm, Pitch 1.27mm, IPC Low Density)
pins: 1 GND (power) "Ground", 2 B1 (hiz) "Bit 1, Most Significant Bit (MSB)", 3 B2 (hiz) "Bit 2", 4 B3 (hiz) "Bit 3", 5 B4 (hiz) "Bit 4", 6 B5 (hiz) "Bit 5", 7 B6 (hiz) "Bit 6", 8 B7 (hiz) "Bit 7", 9 B8 (hiz) "Bit 8", 10 B9 (hiz) "Bit 9", 11 B10 (hiz) "Bit 10, Least Significant Bit (LSB)", 12 DNC "Do Not Connect", 13 DNC "Do Not Connect", 14 GND (power) "Ground", 15 VS+ (power) "+5V Power Supply", 16 CLK (in) "Convert Clock Input, 50% Duty Cycle", 17 VS+ (power) "+5V Power Supply", 18 ~{OE} (in) "HIGH: High-Impedance State. LOW or Floating:Normal Operation. Internal pull-down resistor.", 19 MSBI (out) "Most Significant Bit Inversion, HIGH: MSB inverted for complementary output. LOW or Floating: Straight output. Internal pull-down resistor.", 20 VS+ (power) "+5V Power Supply", 21 REFB (in) "Bottom Reference Bypass. For external bypassing of internal +1.25V reference.", 22 CM (out) "Common-Mode Voltage. It is derived by (REFT + REFB)/2.", 23 REFT (in) "Top Reference Bypass. For external bypassing of internal +3.25V reference.", 24 VS+ (power) "+5V Power Supply", 25 GND (power) "Ground", 26 IN (in) "Input", 27 ~{IN} (in) "Complementary Input", 28 GND (power) "Ground"

## ADS821U
designator U?
10-Bit, 40 MSPS ADC Single-Ended / Differential Inputs with Int References and 9.3-Bit ENOB, -40 to 85 degC, 28-pin SOIC (DW28), Green (RoHS & no Sb/Br); Manufacturer: Texas Instruments; PartNumber: ADS821U; # Input Channels: 1; Analog Voltage AV/DD(Max)(V): 5.25; Analog Voltage AV/DD(Min)(V): 4.75; Architecture: Pipeline; ENOB(Bits): 9.3; INL(Max)(+/-LSB): 2; Interface: Parallel CMOS; Resolution(Bits): 10; Sample Rate (max)(SPS): 40M; SFDR(dB): 62; SINAD(dB): 58; SubFamily: High Speed ADC (>10MSPS); DatasheetVersion: SBAS040B; PackageVersion: 4040000-6/G, 01/2011; PackageReference: DW28; PackageDescription: 28-Pin Plastic Small Outline, Body 17.90 x 7.50 mm, Pitch 1.27 mm; Supplier 1: Digi-Key; Supplier Part Number 1: ADS7823E/2K5G4-ND; Supplier 2: Mouser; Supplier Part Number 2: 595-ADS7823E/2K5G4; Digital Supply(Max)(V): 5.25; Digital Supply(Min)(V): 4.75; Eco-Plan: Green (RoHS & no Sb/Br); SNR(dB): 58; Mounting Technology: Surface Mount; Code_JEDEC: MS-013; ComponentLink1Description: Manufacturer URL; ComponentLink1URL: http://www.ti.com/; ComponentLink2Description: Datasheet; ComponentLink2URL: http://www.ti.com/general/docs/lit/getliterature.tsp?genericPartNumber=ADS821&fileType=pdf; ComponentLink3Description: Package Specification; ComponentLink3URL: http://www.ti.com/lit/ml/mpds175a/mpds175a.pdf
footprint TI-DW28_N (SOIC, 28-Leads, Body 17.9x7.5mm, Pitch 1.27mm, IPC Medium Density)
footprint TI-DW28_L (SOIC, 28-Leads, Body 17.9x7.5mm, Pitch 1.27mm, IPC High Density)
footprint TI-DW28_M (SOIC, 28-Leads, Body 17.9x7.5mm, Pitch 1.27mm, IPC Low Density)
pins: 1 GND (power) "Ground", 2 B1 (hiz) "Bit 1, Most Significant Bit (MSB)", 3 B2 (hiz) "Bit 2", 4 B3 (hiz) "Bit 3", 5 B4 (hiz) "Bit 4", 6 B5 (hiz) "Bit 5", 7 B6 (hiz) "Bit 6", 8 B7 (hiz) "Bit 7", 9 B8 (hiz) "Bit 8", 10 B9 (hiz) "Bit 9", 11 B10 (hiz) "Bit 10, Least Significant Bit (LSB)", 12 DNC "Do Not Connect", 13 DNC "Do Not Connect", 14 GND (power) "Ground", 15 VS+ (power) "+5V Power Supply", 16 CLK (in) "Convert Clock Input, 50% Duty Cycle", 17 VS+ (power) "+5V Power Supply", 18 ~{OE} (in) "HIGH: High-Impedance State. LOW or Floating:Normal Operation. Internal pull-down resistor.", 19 MSBI (out) "Most Significant Bit Inversion, HIGH: MSB inverted for complementary output. LOW or Floating: Straight output. Internal pull-down resistor.", 20 VS+ (power) "+5V Power Supply", 21 REFB (in) "Bottom Reference Bypass. For external bypassing of internal +1.25V reference.", 22 CM (out) "Common-Mode Voltage. It is derived by (REFT + REFB)/2.", 23 REFT (in) "Top Reference Bypass. For external bypassing of internal +3.25V reference.", 24 VS+ (power) "+5V Power Supply", 25 GND (power) "Ground", 26 IN (in) "Input", 27 ~{IN} (in) "Complementary Input", 28 GND (power) "Ground"

## ADS821UG4
designator U?
10-Bit, 40 MSPS ADC Single-Ended / Differential Inputs with Int References and 9.3-Bit ENOB, -40 to 85 degC, 28-pin SOIC (DW28), Green (RoHS & no Sb/Br); Manufacturer: Texas Instruments; PartNumber: ADS821UG4; # Input Channels: 1; Analog Voltage AV/DD(Max)(V): 5.25; Analog Voltage AV/DD(Min)(V): 4.75; Architecture: Pipeline; ENOB(Bits): 9.3; INL(Max)(+/-LSB): 2; Interface: Parallel CMOS; Resolution(Bits): 10; Sample Rate (max)(SPS): 40M; SFDR(dB): 62; SINAD(dB): 58; SubFamily: High Speed ADC (>10MSPS); DatasheetVersion: SBAS040B; PackageVersion: 4040000-6/G, 01/2011; PackageReference: DW28; PackageDescription: 28-Pin Plastic Small Outline, Body 17.90 x 7.50 mm, Pitch 1.27 mm; Supplier 1: Digi-Key; Supplier Part Number 1: ADS7823EB/250TR-ND; Supplier 2: Digi-Key; Supplier Part Number 2: ADS7823EB/250CT-ND; Supplier 3: Digi-Key; Supplier Part Number 3: ADS7823EB/250DKR-ND; Supplier 4: Newark; Supplier Part Number 4: 74C7148; Supplier 5: Mouser; Supplier Part Number 5: 595-ADS7823EB/250; Digital Supply(Max)(V): 5.25; Digital Supply(Min)(V): 4.75; Eco-Plan: Green (RoHS & no Sb/Br); SNR(dB): 58; Mounting Technology: Surface Mount; Code_JEDEC: MS-013; ComponentLink1Description: Manufacturer URL; ComponentLink1URL: http://www.ti.com/; ComponentLink2Description: Datasheet; ComponentLink2URL: http://www.ti.com/general/docs/lit/getliterature.tsp?genericPartNumber=ADS821&fileType=pdf; ComponentLink3Description: Package Specification; ComponentLink3URL: http://www.ti.com/lit/ml/mpds175a/mpds175a.pdf
footprint TI-DW28_N (SOIC, 28-Leads, Body 17.9x7.5mm, Pitch 1.27mm, IPC Medium Density)
footprint TI-DW28_L (SOIC, 28-Leads, Body 17.9x7.5mm, Pitch 1.27mm, IPC High Density)
footprint TI-DW28_M (SOIC, 28-Leads, Body 17.9x7.5mm, Pitch 1.27mm, IPC Low Density)
pins: 1 GND (power) "Ground", 2 B1 (hiz) "Bit 1, Most Significant Bit (MSB)", 3 B2 (hiz) "Bit 2", 4 B3 (hiz) "Bit 3", 5 B4 (hiz) "Bit 4", 6 B5 (hiz) "Bit 5", 7 B6 (hiz) "Bit 6", 8 B7 (hiz) "Bit 7", 9 B8 (hiz) "Bit 8", 10 B9 (hiz) "Bit 9", 11 B10 (hiz) "Bit 10, Least Significant Bit (LSB)", 12 DNC "Do Not Connect", 13 DNC "Do Not Connect", 14 GND (power) "Ground", 15 VS+ (power) "+5V Power Supply", 16 CLK (in) "Convert Clock Input, 50% Duty Cycle", 17 VS+ (power) "+5V Power Supply", 18 ~{OE} (in) "HIGH: High-Impedance State. LOW or Floating:Normal Operation. Internal pull-down resistor.", 19 MSBI (out) "Most Significant Bit Inversion, HIGH: MSB inverted for complementary output. LOW or Floating: Straight output. Internal pull-down resistor.", 20 VS+ (power) "+5V Power Supply", 21 REFB (in) "Bottom Reference Bypass. For external bypassing of internal +1.25V reference.", 22 CM (out) "Common-Mode Voltage. It is derived by (REFT + REFB)/2.", 23 REFT (in) "Top Reference Bypass. For external bypassing of internal +3.25V reference.", 24 VS+ (power) "+5V Power Supply", 25 GND (power) "Ground", 26 IN (in) "Input", 27 ~{IN} (in) "Complementary Input", 28 GND (power) "Ground"

## ADS822E
designator U?
10-Bit, 40 MSPS ADC Single-Ended / Differential Input, Internal / External Reference with Power Down Option, -40 to 85 degC, 28-pin SOP (DB28), Green (RoHS & no Sb/Br); Manufacturer: Texas Instruments; PartNumber: ADS822E; # Input Channels: 1; Analog Voltage AV/DD(Max)(V): 5.25; Analog Voltage AV/DD(Min)(V): 4.75; Architecture: Pipeline; Digital Supply(Max)(V): 5; Digital Supply(Min)(V): 3; ENOB(Bits): 9.5; INL(Max)(+/-LSB): 2; Interface: Parallel CMOS; Resolution(Bits): 10; Sample Rate (max)(SPS): 40M; SFDR(dB): 72; SINAD(dB): 59; SNR(dB): 60; SubFamily: High Speed ADC (>10MSPS); DatasheetVersion: SBAS069B; PackageVersion: 4040065/E, 12/2001; PackageReference: DB28; PackageDescription: 28-Pin Plastic Small Outline, Body 10.2 X 5.3 mm, Pitch 0.65 mm; Supplier 1: Digi-Key; Supplier Part Number 1: ADS7823EB/250G4-ND; Supplier 2: Mouser; Supplier Part Number 2: 595-ADS7823EB/250G4; Eco-Plan: Green (RoHS & no Sb/Br); Mounting Technology: Surface Mount; Code_JEDEC: MO-150; ComponentLink1Description: Manufacturer URL; ComponentLink1URL: http://www.ti.com/; ComponentLink2Description: Datasheet; ComponentLink2URL: http://www.ti.com/general/docs/lit/getliterature.tsp?genericPartNumber=ADS822&fileType=pdf; ComponentLink3Description: Package Specification; ComponentLink3URL: http://www.ti.com/lit/ml/msso002e/msso002e.pdf
footprint TI-DB28_N (SOP, 28-Leads, Body 10.2x5.3mm, Pitch 0.65mm, IPC Medium Density)
footprint TI-DB28_L (SOP, 28-Leads, Body 10.2x5.3mm, Pitch 0.65mm, IPC High Density)
footprint TI-DB28_M (SOP, 28-Leads, Body 10.2x5.3mm, Pitch 0.65mm, IPC Low Density)
pins: 1 GND (power) "Ground", 2 BIT 1 (hiz) "Data Bit 1 (D9) (MSB)", 3 BIT 2 (hiz) "Data Bit 2 (D8)", 4 BIT 3 (hiz) "Data Bit 3 (D7)", 5 BIT 4 (hiz) "Data Bit 4 (D6)", 6 BIT 5 (hiz) "Data Bit 5 (D5)", 7 BIT 6 (hiz) "Data Bit 6 (D4)", 8 BIT 7 (hiz) "Data Bit 7 (D3)", 9 BIT 8 (hiz) "Data Bit 8 (D2)", 10 BIT 9 (hiz) "Data Bit 9 (D1)", 11 BIT 10 (hiz) "Data Bit 10 (D0) (LSB)", 12 ~{OE} (in) "Output Enable. HI: High Impedance State. LO: Normal Operation (Internal Pull-Down Resistor)", 13 PD (in) "Power Down: HI = Power Down; LO = Normal", 14 CLK (in) "Convert Clock Input", 15 VS+ (power) "+5V Supply", 16 GND (power) "Ground", 17 RSEL (in) "Input Range Select: HI = 2V; LO = 1V", 18 ~{INT}/EXT (in) "Reference Select: HI = External; LO = Internal", 19 REFB (in) "Bottom Reference", 20 BYB "Bottom Ladder Bypass", 21 BYT "Top Ladder Bypass", 22 REFT (in) "Top Reference", 23 CM (out) "Common-Mode Voltage Output", 24 ~{IN} (in) "Complementary Input (-)", 25 IN (in) "Analog Input (+)", 26 GND (power) "Ground", 27 VS+ (power) "+5V Supply", 28 VDRV (power) "Output Logic Driver Supply Voltage"

## ADS822E/1K
designator U?
10-Bit, 40 MSPS ADC Single-Ended / Differential Input, Internal / External Reference with Power Down Option, -40 to 85 degC, 28-pin SOP (DB28), Green (RoHS & no Sb/Br); Manufacturer: Texas Instruments; PartNumber: ADS822E/1K; # Input Channels: 1; Analog Voltage AV/DD(Max)(V): 5.25; Analog Voltage AV/DD(Min)(V): 4.75; Architecture: Pipeline; Digital Supply(Max)(V): 5; Digital Supply(Min)(V): 3; ENOB(Bits): 9.5; INL(Max)(+/-LSB): 2; Interface: Parallel CMOS; Resolution(Bits): 10; Sample Rate (max)(SPS): 40M; SFDR(dB): 72; SINAD(dB): 59; SNR(dB): 60; SubFamily: High Speed ADC (>10MSPS); DatasheetVersion: SBAS069B; PackageVersion: 4040065/E, 12/2001; PackageReference: DB28; PackageDescription: 28-Pin Plastic Small Outline, Body 10.2 X 5.3 mm, Pitch 0.65 mm; Supplier 1: Digi-Key; Supplier Part Number 1: ADS7823EB/2K5-ND; Supplier 2: Mouser; Supplier Part Number 2: 595-ADS7823EB/2K5; Eco-Plan: Green (RoHS & no Sb/Br); Mounting Technology: Surface Mount; Code_JEDEC: MO-150; ComponentLink1Description: Manufacturer URL; ComponentLink1URL: http://www.ti.com/; ComponentLink2Description: Datasheet; ComponentLink2URL: http://www.ti.com/general/docs/lit/getliterature.tsp?genericPartNumber=ADS822&fileType=pdf; ComponentLink3Description: Package Specification; ComponentLink3URL: http://www.ti.com/lit/ml/msso002e/msso002e.pdf
footprint TI-DB28_N (SOP, 28-Leads, Body 10.2x5.3mm, Pitch 0.65mm, IPC Medium Density)
footprint TI-DB28_L (SOP, 28-Leads, Body 10.2x5.3mm, Pitch 0.65mm, IPC High Density)
footprint TI-DB28_M (SOP, 28-Leads, Body 10.2x5.3mm, Pitch 0.65mm, IPC Low Density)
pins: 1 GND (power) "Ground", 2 BIT 1 (hiz) "Data Bit 1 (D9) (MSB)", 3 BIT 2 (hiz) "Data Bit 2 (D8)", 4 BIT 3 (hiz) "Data Bit 3 (D7)", 5 BIT 4 (hiz) "Data Bit 4 (D6)", 6 BIT 5 (hiz) "Data Bit 5 (D5)", 7 BIT 6 (hiz) "Data Bit 6 (D4)", 8 BIT 7 (hiz) "Data Bit 7 (D3)", 9 BIT 8 (hiz) "Data Bit 8 (D2)", 10 BIT 9 (hiz) "Data Bit 9 (D1)", 11 BIT 10 (hiz) "Data Bit 10 (D0) (LSB)", 12 ~{OE} (in) "Output Enable. HI: High Impedance State. LO: Normal Operation (Internal Pull-Down Resistor)", 13 PD (in) "Power Down: HI = Power Down; LO = Normal", 14 CLK (in) "Convert Clock Input", 15 VS+ (power) "+5V Supply", 16 GND (power) "Ground", 17 RSEL (in) "Input Range Select: HI = 2V; LO = 1V", 18 ~{INT}/EXT (in) "Reference Select: HI = External; LO = Internal", 19 REFB (in) "Bottom Reference", 20 BYB "Bottom Ladder Bypass", 21 BYT "Top Ladder Bypass", 22 REFT (in) "Top Reference", 23 CM (out) "Common-Mode Voltage Output", 24 ~{IN} (in) "Complementary Input (-)", 25 IN (in) "Analog Input (+)", 26 GND (power) "Ground", 27 VS+ (power) "+5V Supply", 28 VDRV (power) "Output Logic Driver Supply Voltage"

## ADS822E/1KG4
designator U?
10-Bit, 40 MSPS ADC Single-Ended / Differential Input, Internal / External Reference with Power Down Option, -40 to 85 degC, 28-pin SOP (DB28), Green (RoHS & no Sb/Br); Manufacturer: Texas Instruments; PartNumber: ADS822E/1KG4; # Input Channels: 1; Analog Voltage AV/DD(Max)(V): 5.25; Analog Voltage AV/DD(Min)(V): 4.75; Architecture: Pipeline; Digital Supply(Max)(V): 5; Digital Supply(Min)(V): 3; ENOB(Bits): 9.5; INL(Max)(+/-LSB): 2; Interface: Parallel CMOS; Resolution(Bits): 10; Sample Rate (max)(SPS): 40M; SFDR(dB): 72; SINAD(dB): 59; SNR(dB): 60; SubFamily: High Speed ADC (>10MSPS); DatasheetVersion: SBAS069B; PackageVersion: 4040065/E, 12/2001; PackageReference: DB28; PackageDescription: 28-Pin Plastic Small Outline, Body 10.2 X 5.3 mm, Pitch 0.65 mm; Supplier 1: Digi-Key; Supplier Part Number 1: ADS7823EB/2K5G4-ND; Supplier 2: Mouser; Supplier Part Number 2: 595-ADS7823EB/2K5G4; Eco-Plan: Green (RoHS & no Sb/Br); Mounting Technology: Surface Mount; Code_JEDEC: MO-150; ComponentLink1Description: Manufacturer URL; ComponentLink1URL: http://www.ti.com/; ComponentLink2Description: Datasheet; ComponentLink2URL: http://www.ti.com/general/docs/lit/getliterature.tsp?genericPartNumber=ADS822&fileType=pdf; ComponentLink3Description: Package Specification; ComponentLink3URL: http://www.ti.com/lit/ml/msso002e/msso002e.pdf
footprint TI-DB28_N (SOP, 28-Leads, Body 10.2x5.3mm, Pitch 0.65mm, IPC Medium Density)
footprint TI-DB28_L (SOP, 28-Leads, Body 10.2x5.3mm, Pitch 0.65mm, IPC High Density)
footprint TI-DB28_M (SOP, 28-Leads, Body 10.2x5.3mm, Pitch 0.65mm, IPC Low Density)
pins: 1 GND (power) "Ground", 2 BIT 1 (hiz) "Data Bit 1 (D9) (MSB)", 3 BIT 2 (hiz) "Data Bit 2 (D8)", 4 BIT 3 (hiz) "Data Bit 3 (D7)", 5 BIT 4 (hiz) "Data Bit 4 (D6)", 6 BIT 5 (hiz) "Data Bit 5 (D5)", 7 BIT 6 (hiz) "Data Bit 6 (D4)", 8 BIT 7 (hiz) "Data Bit 7 (D3)", 9 BIT 8 (hiz) "Data Bit 8 (D2)", 10 BIT 9 (hiz) "Data Bit 9 (D1)", 11 BIT 10 (hiz) "Data Bit 10 (D0) (LSB)", 12 ~{OE} (in) "Output Enable. HI: High Impedance State. LO: Normal Operation (Internal Pull-Down Resistor)", 13 PD (in) "Power Down: HI = Power Down; LO = Normal", 14 CLK (in) "Convert Clock Input", 15 VS+ (power) "+5V Supply", 16 GND (power) "Ground", 17 RSEL (in) "Input Range Select: HI = 2V; LO = 1V", 18 ~{INT}/EXT (in) "Reference Select: HI = External; LO = Internal", 19 REFB (in) "Bottom Reference", 20 BYB "Bottom Ladder Bypass", 21 BYT "Top Ladder Bypass", 22 REFT (in) "Top Reference", 23 CM (out) "Common-Mode Voltage Output", 24 ~{IN} (in) "Complementary Input (-)", 25 IN (in) "Analog Input (+)", 26 GND (power) "Ground", 27 VS+ (power) "+5V Supply", 28 VDRV (power) "Output Logic Driver Supply Voltage"

## ADS822EG4
designator U?
10-Bit, 40 MSPS ADC Single-Ended / Differential Input, Internal / External Reference with Power Down Option, -40 to 85 degC, 28-pin SOP (DB28), Green (RoHS & no Sb/Br); Manufacturer: Texas Instruments; PartNumber: ADS822EG4; # Input Channels: 1; Analog Voltage AV/DD(Max)(V): 5.25; Analog Voltage AV/DD(Min)(V): 4.75; Architecture: Pipeline; Digital Supply(Max)(V): 5; Digital Supply(Min)(V): 3; ENOB(Bits): 9.5; INL(Max)(+/-LSB): 2; Interface: Parallel CMOS; Resolution(Bits): 10; Sample Rate (max)(SPS): 40M; SFDR(dB): 72; SINAD(dB): 59; SNR(dB): 60; SubFamily: High Speed ADC (>10MSPS); DatasheetVersion: SBAS069B; PackageVersion: 4040065/E, 12/2001; PackageReference: DB28; PackageDescription: 28-Pin Plastic Small Outline, Body 10.2 X 5.3 mm, Pitch 0.65 mm; Supplier 1: Digi-Key; Supplier Part Number 1: TLC2552CDGK-ND; Supplier 2: Mouser; Supplier Part Number 2: 595-TLC2552CDGK; Eco-Plan: Green (RoHS & no Sb/Br); Mounting Technology: Surface Mount; Code_JEDEC: MO-150; ComponentLink1Description: Manufacturer URL; ComponentLink1URL: http://www.ti.com/; ComponentLink2Description: Datasheet; ComponentLink2URL: http://www.ti.com/general/docs/lit/getliterature.tsp?genericPartNumber=ADS822&fileType=pdf; ComponentLink3Description: Package Specification; ComponentLink3URL: http://www.ti.com/lit/ml/msso002e/msso002e.pdf
footprint TI-DB28_N (SOP, 28-Leads, Body 10.2x5.3mm, Pitch 0.65mm, IPC Medium Density)
footprint TI-DB28_L (SOP, 28-Leads, Body 10.2x5.3mm, Pitch 0.65mm, IPC High Density)
footprint TI-DB28_M (SOP, 28-Leads, Body 10.2x5.3mm, Pitch 0.65mm, IPC Low Density)
pins: 1 GND (power) "Ground", 2 BIT 1 (hiz) "Data Bit 1 (D9) (MSB)", 3 BIT 2 (hiz) "Data Bit 2 (D8)", 4 BIT 3 (hiz) "Data Bit 3 (D7)", 5 BIT 4 (hiz) "Data Bit 4 (D6)", 6 BIT 5 (hiz) "Data Bit 5 (D5)", 7 BIT 6 (hiz) "Data Bit 6 (D4)", 8 BIT 7 (hiz) "Data Bit 7 (D3)", 9 BIT 8 (hiz) "Data Bit 8 (D2)", 10 BIT 9 (hiz) "Data Bit 9 (D1)", 11 BIT 10 (hiz) "Data Bit 10 (D0) (LSB)", 12 ~{OE} (in) "Output Enable. HI: High Impedance State. LO: Normal Operation (Internal Pull-Down Resistor)", 13 PD (in) "Power Down: HI = Power Down; LO = Normal", 14 CLK (in) "Convert Clock Input", 15 VS+ (power) "+5V Supply", 16 GND (power) "Ground", 17 RSEL (in) "Input Range Select: HI = 2V; LO = 1V", 18 ~{INT}/EXT (in) "Reference Select: HI = External; LO = Internal", 19 REFB (in) "Bottom Reference", 20 BYB "Bottom Ladder Bypass", 21 BYT "Top Ladder Bypass", 22 REFT (in) "Top Reference", 23 CM (out) "Common-Mode Voltage Output", 24 ~{IN} (in) "Complementary Input (-)", 25 IN (in) "Analog Input (+)", 26 GND (power) "Ground", 27 VS+ (power) "+5V Supply", 28 VDRV (power) "Output Logic Driver Supply Voltage"

## ADS823E
designator U?
10-Bit, 60 MSPS ADC Single-Ended / Differential, Internal / External Reference, Programmble Input Range with Power Down, -40 to 85 degC, 28-pin SOP (DB28), Green (RoHS & no Sb/Br); Manufacturer: Texas Instruments; PartNumber: ADS823E; # Input Channels: 1; Analog Voltage AV/DD(Max)(V): 5.25; Analog Voltage AV/DD(Min)(V): 4.75; Architecture: Pipeline; Digital Supply(Max)(V): 5; Digital Supply(Min)(V): 3; ENOB(Bits): 9.5; INL(Max)(+/-LSB): 2; Interface: Parallel CMOS; Resolution(Bits): 10; Sample Rate (max)(SPS): 60M; SFDR(dB): 74; SINAD(dB): 59; SNR(dB): 60; SubFamily: High Speed ADC (>10MSPS); DatasheetVersion: SBAS070B; PackageVersion: 4040065/E, 12/2001; PackageReference: DB28; PackageDescription: 28-Pin Plastic Small Outline, Body 10.2 X 5.3 mm, Pitch 0.65 mm; Supplier 1: Digi-Key; Supplier Part Number 1: TLC2552CDGKG4-ND; Supplier 2: Mouser; Supplier Part Number 2: 595-TLC2552CDGKG4; Eco-Plan: Green (RoHS & no Sb/Br); Mounting Technology: Surface Mount; Code_JEDEC: MO-150; ComponentLink1Description: Manufacturer URL; ComponentLink1URL: http://www.ti.com/; ComponentLink2Description: Datasheet; ComponentLink2URL: http://www.ti.com/general/docs/lit/getliterature.tsp?genericPartNumber=ADS823&fileType=pdf; ComponentLink3Description: Package Specification; ComponentLink3URL: http://www.ti.com/lit/ml/msso002e/msso002e.pdf
footprint TI-DB28_N (SOP, 28-Leads, Body 10.2x5.3mm, Pitch 0.65mm, IPC Medium Density)
footprint TI-DB28_L (SOP, 28-Leads, Body 10.2x5.3mm, Pitch 0.65mm, IPC High Density)
footprint TI-DB28_M (SOP, 28-Leads, Body 10.2x5.3mm, Pitch 0.65mm, IPC Low Density)
pins: 1 GND (power) "Ground", 2 BIT 1 (hiz) "Data Bit 1 (D9) (MSB)", 3 BIT 2 (hiz) "Data Bit 2 (D8)", 4 BIT 3 (hiz) "Data Bit 3 (D7)", 5 BIT 4 (hiz) "Data Bit 4 (D6)", 6 BIT 5 (hiz) "Data Bit 5 (D5)", 7 BIT 6 (hiz) "Data Bit 6 (D4)", 8 BIT 7 (hiz) "Data Bit 7 (D3)", 9 BIT 8 (hiz) "Data Bit 8 (D2)", 10 BIT 9 (hiz) "Data Bit 9 (D1)", 11 BIT 10 (hiz) "Data Bit 10 (D0) (LSB)", 12 ~{OE} (in) "Output Enable. HI: High Impedance State. LO: Normal Operation (Internal Pull-Down Resistor)", 13 PD (in) "Power Down: HI = Power Down; LO = Normal", 14 CLK (in) "Convert Clock Input", 15 VS+ (power) "+5V Supply", 16 GND (power) "Ground", 17 RSEL (in) "Input Range Select: HI = 2V; LO = 1V", 18 ~{INT}/EXT (in) "Reference Select: HI = External; LO = Internal", 19 REFB (in) "Bottom Reference", 20 BYB "Bottom Ladder Bypass", 21 BYT "Top Ladder Bypass", 22 REFT (in) "Top Reference", 23 CM (out) "Common-Mode Voltage Output", 24 ~{IN} (in) "Complementary Input (-)", 25 IN (in) "Analog Input (+)", 26 GND (power) "Ground", 27 VS+ (power) "+5V Supply", 28 VDRV (power) "Output Logic Driver Supply Voltage"